# EAGLE library part LT1616 (library custom)
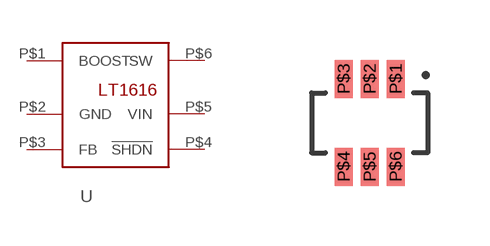
[diagram p9: symbol with the pads of SOT23-6; footprint SOT23-6]

Designator prefix -

## LT1616  [SOT23-6]
P$1  BOOST
P$2  GND
P$3  FB
P$4  !SHDN
P$5  VIN
P$6  SW

## Footprint SOT23-6 (pad centres in mm)
smd 0.45 x 0.95: P$1 0.65,1.1; P$2 0,1.1; P$3 -0.65,1.1; P$4 -0.65,-1.1; P$5 0,-1.1; P$6 0.65,-1.1